# EAGLE library part 75452 (library den)
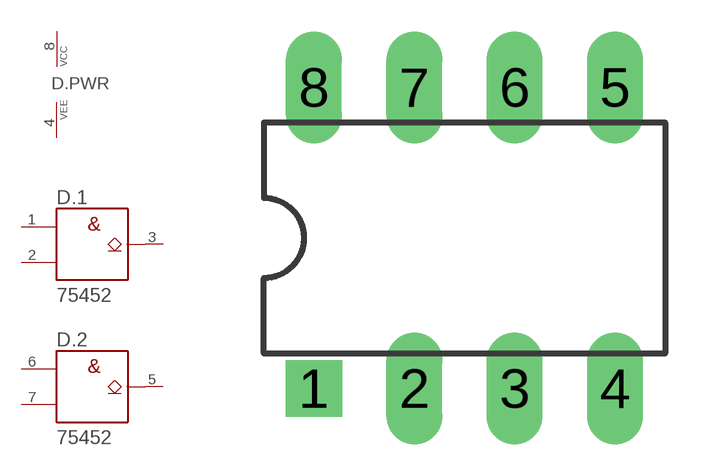
[diagram p36: symbol with the pads of DIL08; footprint DIL08]

Designator prefix D; gates .1=75452 .2=75452 .PWR=VCC-VEE

## 75452  [DIL08]
1  .1:A  in
2  .1:B  in
3  .1:Y  oc
4  .PWR:VEE  pwr
5  .2:Y  oc
6  .2:A  in
7  .2:B  in
8  .PWR:VCC  pwr

## Footprint DIL08 (pad centres in mm)
Dual In Line Package
drill 0.8 pad 1.422 square: 1 -3.81,-3.81
drill 0.8 pad 1.422 long: 2 -1.27,-3.81; 3 1.27,-3.81; 4 3.81,-3.81; 5 3.81,3.81; 6 1.27,3.81; 7 -1.27,3.81; 8 -3.81,3.81